# EAGLE library part RJ45-SHIELD-LEDS (library LEDscape)
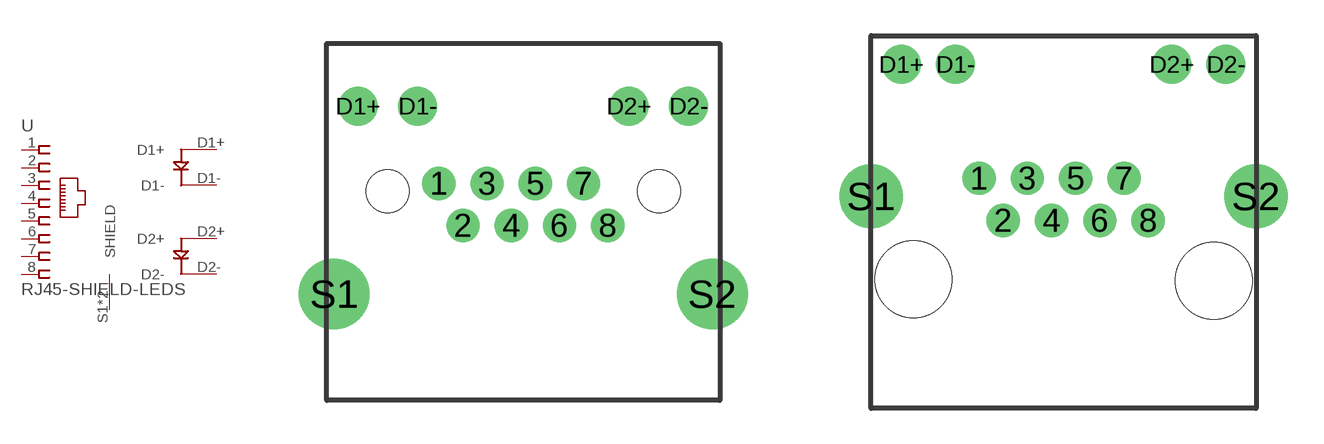
[diagram p3: symbol with the pads of RJ45-SHIELD-LEDS; footprints RJ45-SHIELD-LEDS, RJ45-SHIELD-LEDS-ALT]

Designator prefix -

## RJ45-SHIELD-LEDSAMPHENOL  [RJ45-SHIELD-LEDS]
1  1  pas
2  2  pas
3  3  pas
4  4  pas
5  5  pas
6  6  pas
7  7  pas
8  8  pas
D1+  D1+
D1-  D1-
D2+  D2+
D2-  D2-
S1  SHIELD
S2  SHIELD

## RJ45-SHIELD-LEDS  [RJ45-SHIELD-LEDS-ALT]
1  8  pas
2  7  pas
3  6  pas
4  5  pas
5  4  pas
6  3  pas
7  2  pas
8  1  pas
D1+  D1+
D1-  D1-
D2+  D2+
D2-  D2-
S1  SHIELD
S2  SHIELD

## Footprint RJ45-SHIELD-LEDS (pad centres in mm)
For Amphenol RJE73-188
drill 0.9: 1 -3.57,0.33; 2 -2.55,-1.45; 3 -1.53,0.33; 4 -0.51,-1.45; 5 0.51,0.33; 6 1.53,-1.45; 7 2.55,0.33; 8 3.57,-1.45
drill 1.1: D1+ -7,3.6; D1- -4.47,3.6; D2+ 4.47,3.6; D2- 7,3.6
drill 2: S1 -8,-4.35; S2 8,-4.35
hole 1.8 at -5.74,0
hole 1.8 at 5.74,0

## Footprint RJ45-SHIELD-LEDS-ALT (pad centres in mm)
drill 0.9: 1 -3.57,0.76; 2 -2.55,-1.02; 3 -1.53,0.76; 4 -0.51,-1.02; 5 0.51,0.76; 6 1.53,-1.02; 7 2.55,0.76; 8 3.57,-1.02
drill 1.1: D1+ -6.86,5.57; D1- -4.57,5.57; D2+ 4.57,5.57; D2- 6.86,5.57
drill 1.8: S1 -8.13,0; S2 8.13,0
hole 3.25 at -6.35,-3.5
hole 3.25 at 6.35,-3.56